# Altium schematic symbol library HEF4053BT-Q100J.Schlib: 1 symbol
Pins are listed as number, name and electrical type; pins without a type are passive.

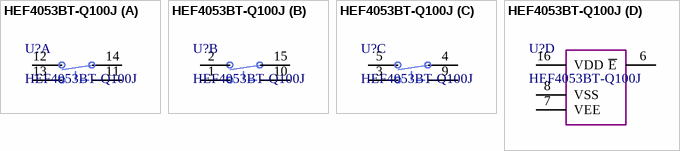
[diagram p0: symbol HEF4053BT-Q100J]

## HEF4053BT-Q100J
designator U?
part A pins: 11 S1, 12 1Y0, 13 1Y1, 14 1Z
part B pins: 1 2Y1, 2 2Y0, 10 S2, 15 2Z
part C pins: 3 3Y1, 4 3Z, 5 3Y0, 9 S3
part D pins: 6 ~{E}, 7 VEE, 8 VSS, 16 VDD